# Altium footprint library PcbLib.PcbLib: 14 footprints
Each footprint in its own frame and in the unit in brackets; x right, y up, seen from the top. Pads: shape width x height; smd on the part's side, far side on the other; paste and mask are expansions set on the pad; w line width, h text height; cw(c..) or ccw(c..) is an arc to the next point about the centre after c.
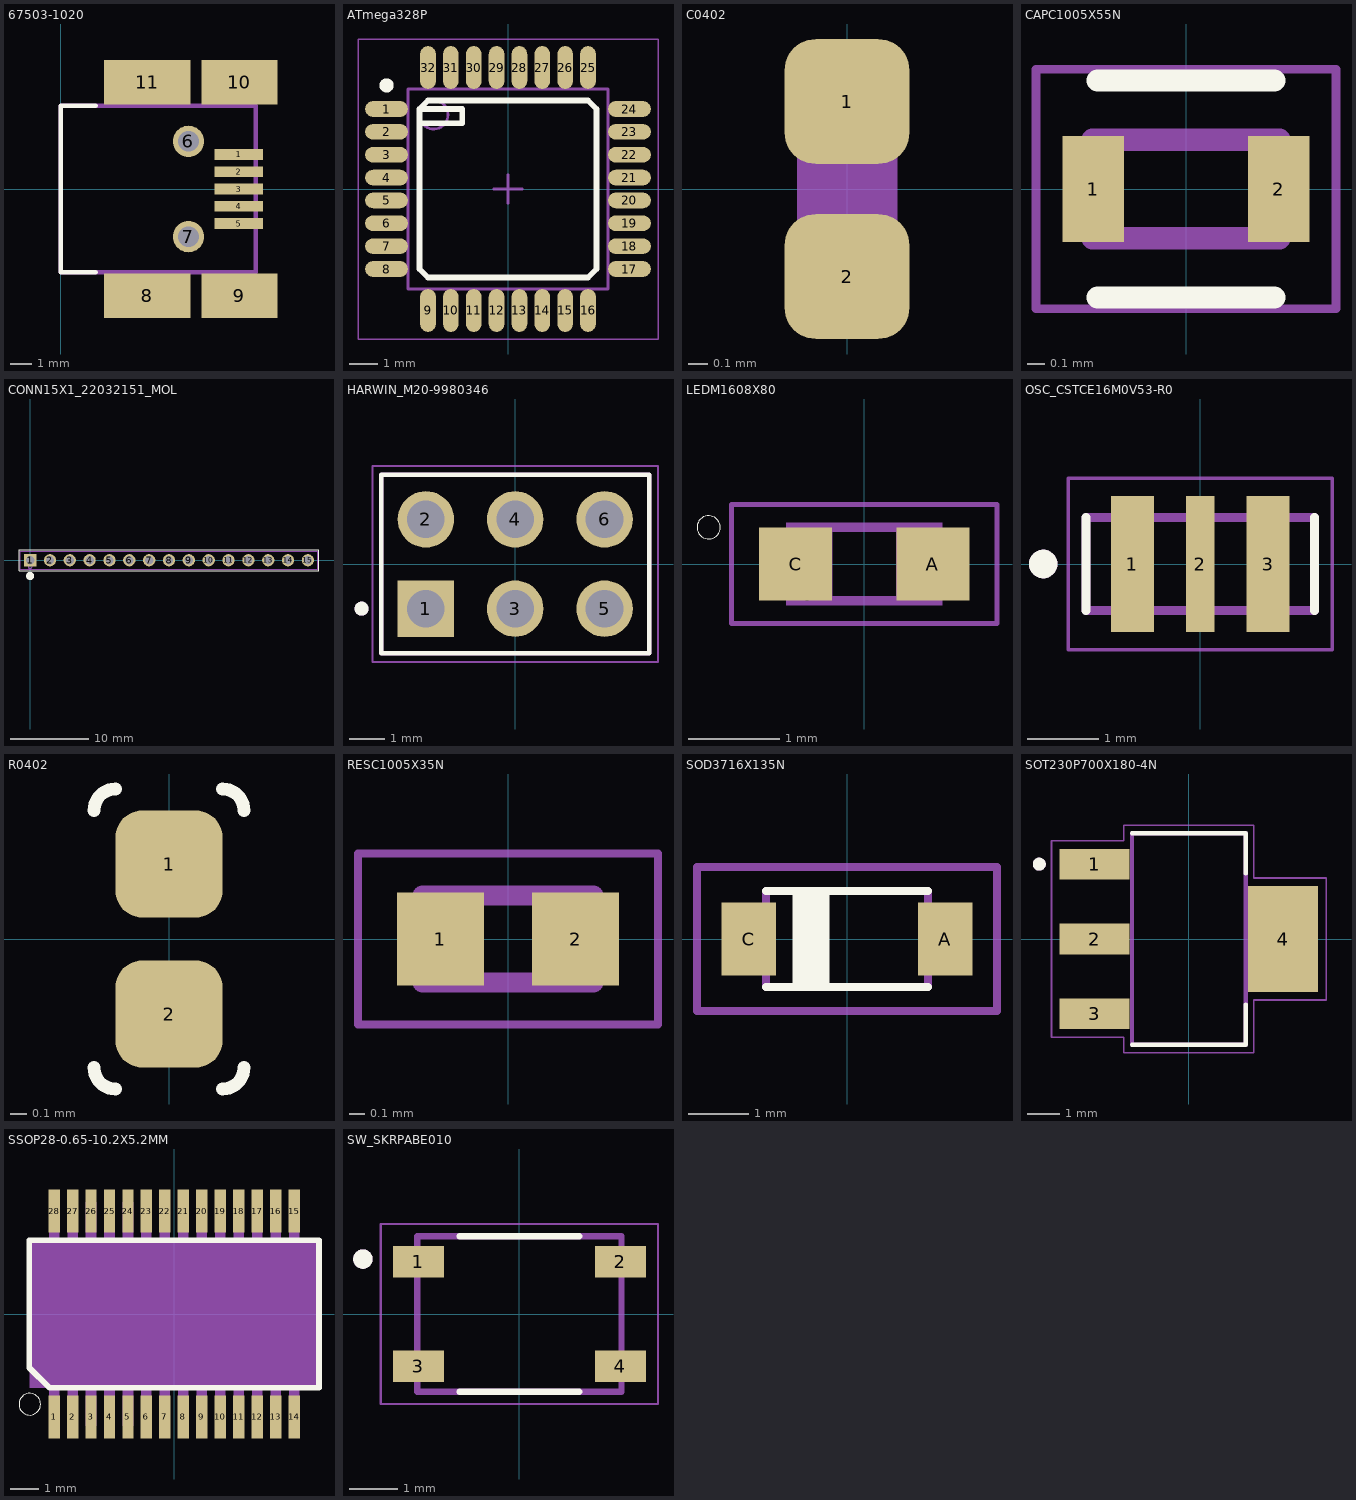
[diagram p0: the footprints below, top view; thin cyan lines are the x and y axes]

## 67503-1020 [mm]
pads (11):
  rect 2.25x0.5 smd: 1(8.225,1.6) 2(8.225,0.8) 3(8.225,0) 4(8.225,-0.8) 5(8.225,-1.6)
  round 1.45 hole 0.95: 6(5.9,2.2) 7(5.9,-2.2)
  rect 4x2.05 smd: 8(4,-4.925) 11(4,4.925)
  rect 3.5x2.05 smd: 9(8.25,-4.925) 10(8.25,4.925)
Top Overlay:
  lines w0.2: 1.62,-3.85 0,-3.85 0,3.85 1.62,3.85
Mechanical 13:
  lines w0.2: 0,-3.85 9,-3.85 9,3.85 0,3.85 0,-3.85
3D body "0675031020.stp": height 3.96, standoff -0.99, extent 0.072,-4.947 9.072,4.953

## ATmega328P [mm] "CQFP, 32-Leads, Body 9,00x9,00mm, Pitch 0,80mm, IPC Medium Density"
height 1.2
pads (32):
  oval 1.5x0.55 smd: 1(-4.25,2.8) 2(-4.25,2) 3(-4.25,1.2) 4(-4.25,0.4) 5(-4.25,-0.4) 6(-4.25,-1.2) 7(-4.25,-2) 8(-4.25,-2.8) 17(4.25,-2.8) 18(4.25,-2) 19(4.25,-1.2) 20(4.25,-0.4) 21(4.25,0.4) 22(4.25,1.2) 23(4.25,2) 24(4.25,2.8)
  oval 0.55x1.5 smd: 9(-2.8,-4.25) 10(-2,-4.25) 11(-1.2,-4.25) 12(-0.4,-4.25) 13(0.4,-4.25) 14(1.2,-4.25) 15(2,-4.25) 16(2.8,-4.25) 25(2.8,4.25) 26(2,4.25) 27(1.2,4.25) 28(0.4,4.25) 29(-0.4,4.25) 30(-1.2,4.25) 31(-2,4.25) 32(-2.8,4.25)
Top Overlay:
  circle w0.25: c-4.25,3.625 r0.125
  lines w0.2: -3.1,2.3 -1.6,2.3 -1.6,2.8 -3.1,2.8 ; -3.1,2.8 -3.1,-2.8 -2.8,-3.1 2.8,-3.1 3.1,-2.8 3.1,2.8 2.8,3.1 -2.8,3.1 -3.1,2.8
Mechanical 13:
  circle w0.1: c-2.6,2.6 r0.5
  lines w0.1: -3.5,-3.5 -3.5,3.5 3.5,3.5 3.5,-3.5 -3.5,-3.5
Mechanical 15:
  lines w0.05: -5.25,-5.25 -5.25,5.25 5.25,5.25 5.25,-5.25 -5.25,-5.25
  lines w0.1: -0.5,0 0.5,0 ; 0,-0.5 0,0.5
3D body: height 1.2, standoff 0.15, extent -3.5,-3.5 3.5,3.5

## C0402 [mil]
pads (2):
  rrect50% 25x25 smd: 1(0,17.5) 2(0,-17.5)
Mechanical 13:
  region: 10,-20 -10,-20 -10,20 10,20
3D body "step_temp.STEP": height 21.65, standoff 0, extent -9.84,-21.87 9.84,17.5

## CAPC1005X55N [mm]
pads (2):
  rect 0.35x0.6 smd: 1(-0.525,0) 2(0.525,0)
Top Overlay:
  lines w0.127: -0.5,-0.615 0.5,-0.615 ; -0.5,0.615 0.5,0.615
Mechanical 13:
  lines w0.127: -0.53,-0.28 0.53,-0.28 0.53,0.28 -0.53,0.28 -0.53,-0.28
Mechanical 15:
  lines w0.05: -0.85,-0.679 0.85,-0.679 0.85,0.679 -0.85,0.679 -0.85,-0.679
3D body "step_temp.STEP": height 0.55, standoff 0, extent -0.5,-0.25 0.5,0.25

## CONN15X1_22032151_MOL [mil]
pads (15):
  rect 62x62 / inner round 62 / far side rect 62x62 hole 42: 1(0,0)
  round 62 hole 42: 2(100,0) 3(200,0) 4(300,0) 5(400,0) 6(500,0) 7(600,0) 8(700,0) 9(800,0) 10(900,0) 11(1000,0) 12(1100,0) 13(1200,0) 14(1300,0) 15(1400,0)
Top Overlay:
  lines w6: -56,-52 1456,-52 1456,52 -56,52 -56,-52
  lines w20: 10,-80 cw(c0,-80) -10,-80 cw(c0,-79.5) 10,-78.98
Mechanical 13:
  lines w0: 10,-32 cw(c0,-32) -10,-32 cw(c0,-31.5) 10,-30.98
  lines w6: -50,-46 1450,-46 1450,46 -50,46 -50,-46
3D body "0022032151.stp": height 425.5, standoff -134.5, extent -45,-46.5 1445,46.5

## HARWIN_M20-9980346 [mm]
pads (6):
  rect 1.605x1.605 / inner round 1.605 / far side rect 1.605x1.605 hole 1.07: 1(-2.54,-1.27)
  round 1.605 hole 1.07: 2(-2.54,1.27) 3(0,-1.27) 4(0,1.27) 5(2.54,-1.27) 6(2.54,1.27)
Top Overlay:
  circle w0.2: c-4.37,-1.27 r0.1
  lines w0.127: -3.81,-2.54 -3.81,2.54 3.81,2.54 3.81,-2.54 -3.81,-2.54
Mechanical 13:
  circle w0.2: c-4.37,-1.27 r0.1
  lines w0.127: -3.81,-2.54 -3.81,2.54 3.81,2.54 3.81,-2.54 -3.81,-2.54
Mechanical 15:
  lines w0.05: -4.06,-2.79 4.06,-2.79 4.06,2.79 -4.06,2.79 -4.06,-2.79
3D body "m20-9980346.stp": height 8.05, standoff -3.63, extent -3.81,-2.54 3.81,2.54

## LEDM1608X80 [mm]
pads (2):
  rect 0.8x0.8 smd: A(0.75,0) C(-0.75,0)
Top Overlay:
  circle w0: c-1.7,0.4 r0.127
Mechanical 13:
  circle w0.051: c-0.625,-0.35 r0.075
  region: -0.7,-0.451 -0.851,-0.451 -0.851,-0.25 -0.7,-0.25
  region: -0.55,-0.276 -0.601,-0.276 -0.601,-0.225 -0.55,-0.225
  region: -0.35,-0.45 -0.725,-0.45 -0.725,-0.4 -0.35,-0.4
  region: -0.551,0.25 -0.85,0.25 -0.85,0.451 -0.551,0.451
  region: -0.351,-0.451 -0.576,-0.451 -0.576,0.451 -0.351,0.451
  region: 0.851,-0.45 0.35,-0.45 0.35,-0.251 0.851,-0.251
  region: 0.85,0.25 0.35,0.25 0.35,0.45 0.85,0.45
  region: 0.575,-0.275 0.35,-0.275 0.35,0.275 0.575,0.275
  region: 0.65,-0.275 0.55,-0.275 0.55,-0.175 0.65,-0.175
  region: 0.65,0.175 0.55,0.175 0.55,0.275 0.65,0.275
  lines w0.051: 0.825,-0.275 cw(c0.825,0) 0.825,0.275
  lines w0.102: -0.8,-0.3 ccw(c-0.826,0) -0.8,0.3 ; -0.375,-0.4 0.35,-0.4 ; -0.35,0.4 0.35,0.4
Mechanical 15:
  lines w0.05: -1.45,-0.65 1.45,-0.65 1.45,0.65 -1.45,0.65 -1.45,-0.65
3D body "step_temp.STEP": height 0.8, standoff 0, extent -0.8,-0.4 0.8,0.4

## OSC_CSTCE16M0V53-R0 [mm]
pads (3):
  rect 0.6x1.9 smd: 1(-0.95,0) 3(0.95,0)
  rect 0.4x1.9 smd: 2(0,0)
Top Overlay:
  circle w0.2: c-2.2,0 r0.1
  lines w0.127: -1.6,-0.65 -1.6,0.65 ; 1.6,-0.65 1.6,0.65
Mechanical 13:
  circle w0.2: c-2.2,0 r0.1
  lines w0.127: -1.6,-0.65 -1.6,0.65 1.6,0.65 1.6,-0.65 -1.6,-0.65
Mechanical 15:
  lines w0.05: -1.85,-1.2 -1.85,1.2 1.85,1.2 1.85,-1.2 -1.85,-1.2
3D body "step_temp.STEP": height 1, standoff 0, extent -1.6,-0.65 1.6,0.65

## R0402 [mil]
pads (2):
  rrect50% 25x25 smd: 1(0,17.5) 2(0,-17.5)
Top Overlay:
  lines w3: -17.5,-30 ccw(c-12.5,-30) -12.5,-35 ; -17.5,30 cw(c-12.5,30) -12.5,35 ; 12.5,-35 ccw(c12.5,-30) 17.5,-30 ; 12.5,35 cw(c12.5,30) 17.5,30
3D body "RC0402JR-071KL.STEP": height 15.46, standoff -0.28, extent -9.84,-19.68 9.84,19.68

## RESC1005X35N [mm]
pads (2):
  rect 0.56x0.6 smd: 1(-0.435,0) 2(0.435,0)
Mechanical 13:
  lines w0.127: -0.55,-0.28 -0.55,0.28 0.55,0.28 0.55,-0.28 -0.55,-0.28
Mechanical 15:
  lines w0.05: -0.965,-0.55 -0.965,0.55 0.965,0.55 0.965,-0.55 -0.965,-0.55
3D body "step_temp.STEP": height 0.35, standoff 0, extent -0.5,-0.25 0.5,0.25

## SOD3716X135N [mm]
pads (2):
  rect 0.91x1.22 smd: A(1.635,0) C(-1.635,0)
Top Overlay:
  region: -0.3,-0.801 -0.901,-0.801 -0.901,0.8 -0.3,0.8
  lines w0.127: -1.35,-0.8 1.35,-0.8 ; -1.35,0.8 1.35,0.8
Mechanical 13:
  lines w0.127: -1.35,-0.8 -1.35,0.8 ; 1.35,-0.8 1.35,0.8
Mechanical 15:
  lines w0.127: -2.5,-1.2 -2.5,1.2 2.5,1.2 2.5,-1.2 -2.5,-1.2
3D body "step_temp.STEP": height 1.35, standoff 0, extent -1.84,-0.8 1.84,0.8

## SOT230P700X180-4N [mm]
pads (4):
  rect 2.15x0.95 smd: 1(-2.9,2.3) 2(-2.9,0) 3(-2.9,-2.3)
  rect 2.15x3.25 smd: 4(2.9,0)
Top Overlay:
  circle w0.2: c-4.6,2.3 r0.1
  lines w0.127: -1.75,-3.25 1.75,-3.25 1.75,-2.01 ; -1.75,3.25 1.75,3.25 1.75,2.01
Mechanical 13:
  circle w0.2: c-4.6,2.3 r0.1
  lines w0.127: -1.75,-3.25 1.75,-3.25 1.75,3.25 -1.75,3.25 -1.75,-3.25
Mechanical 15:
  lines w0.05: -4.225,-3.025 -2,-3.025 -2,-3.5 2,-3.5 2,-1.875 4.225,-1.875 4.225,1.875 2,1.875 2,3.5 -2,3.5 -2,3.025 -4.225,3.025 -4.225,-3.025
3D body "step_temp.STEP": height 1.8, standoff 0, extent -3.499,-3.25 3.499,3.25

## SSOP28-0.65-10.2X5.2MM [mm]
pads (28):
  rect 0.4x1.5 smd: 1(-4.225,-3.625) 2(-3.575,-3.625) 3(-2.925,-3.625) 4(-2.275,-3.625) 5(-1.625,-3.625) 6(-0.975,-3.625) 7(-0.325,-3.625) 8(0.325,-3.625) 9(0.975,-3.625) 10(1.625,-3.625) 11(2.275,-3.625) 12(2.925,-3.625) 13(3.575,-3.625) 14(4.225,-3.625) 15(4.225,3.625) 16(3.575,3.625) 17(2.925,3.625) 18(2.275,3.625) 19(1.625,3.625) 20(0.975,3.625) 21(0.325,3.625) 22(-0.325,3.625) 23(-0.975,3.625) 24(-1.625,3.625) 25(-2.275,3.625) 26(-2.925,3.625) 27(-3.575,3.625) 28(-4.225,3.625)
Top Overlay:
  circle w0: c-5.08,-3.175 r0.381
  lines w0.203: -5.1,-1.89 -4.39,-2.6 5.1,-2.6 5.1,2.6 -5.1,2.6 -5.1,-1.89
Mechanical 13:
  region: -4.047,2.642 -4.403,2.642 -4.403,3.937 -4.047,3.937
  region: -3.397,2.642 -3.753,2.642 -3.753,3.937 -3.397,3.937
  region: -2.747,2.642 -3.103,2.642 -3.103,3.937 -2.747,3.937
  region: -2.097,2.642 -2.453,2.642 -2.453,3.937 -2.097,3.937
  region: -1.447,2.642 -1.803,2.642 -1.803,3.937 -1.447,3.937
  region: -0.797,2.642 -1.153,2.642 -1.153,3.937 -0.797,3.937
  region: -0.147,2.642 -0.503,2.642 -0.503,3.937 -0.147,3.937
  region: 0.503,2.642 0.147,2.642 0.147,3.937 0.503,3.937
  region: 1.153,2.642 0.797,2.642 0.797,3.937 1.153,3.937
  region: 1.803,2.642 1.447,2.642 1.447,3.937 1.803,3.937
  region: 2.453,2.642 2.097,2.642 2.097,3.937 2.453,3.937
  region: 3.103,2.642 2.747,2.642 2.747,3.937 3.103,3.937
  region: 3.753,2.642 3.397,2.642 3.397,3.937 3.753,3.937
  region: 4.403,2.642 4.047,2.642 4.047,3.937 4.403,3.937
  region: 4.403,-3.937 4.047,-3.937 4.047,-2.642 4.403,-2.642
  region: 3.753,-3.937 3.397,-3.937 3.397,-2.642 3.753,-2.642
  region: 3.103,-3.937 2.747,-3.937 2.747,-2.642 3.103,-2.642
  region: 2.453,-3.937 2.097,-3.937 2.097,-2.642 2.453,-2.642
  region: 1.803,-3.937 1.447,-3.937 1.447,-2.642 1.803,-2.642
  region: 1.153,-3.937 0.797,-3.937 0.797,-2.642 1.153,-2.642
  region: 0.503,-3.937 0.147,-3.937 0.147,-2.642 0.503,-2.642
  region: -0.147,-3.937 -0.503,-3.937 -0.503,-2.642 -0.147,-2.642
  region: -0.797,-3.937 -1.153,-3.937 -1.153,-2.642 -0.797,-2.642
  region: -1.447,-3.937 -1.803,-3.937 -1.803,-2.642 -1.447,-2.642
  region: -2.097,-3.937 -2.453,-3.937 -2.453,-2.642 -2.097,-2.642
  region: -2.747,-3.937 -3.103,-3.937 -3.103,-2.642 -2.747,-2.642
  region: -3.397,-3.937 -3.753,-3.937 -3.753,-2.642 -3.397,-2.642
  region: -4.047,-3.937 -4.403,-3.937 -4.403,-2.642 -4.047,-2.642
Mechanical 15:
  region: 5.08,-2.6 -5.08,-2.6 -5.08,2.6 5.08,2.6
3D body "step_temp.STEP": height 2, standoff 0, extent -5.1,-3.9 5.1,3.9

## SW_SKRPABE010 [mm]
height 2.5
pads (4):
  rect 1.05x0.65 smd: 1(-2.075,1.075) 2(2.075,1.075) 3(-2.075,-1.075) 4(2.075,-1.075)
Top Overlay:
  circle w0.2: c-3.218,1.13 r0.1
  lines w0.127: -1.23,-1.6 1.23,-1.6 ; -1.23,1.6 1.23,1.6
Mechanical 13:
  circle w0.2: c-3.218,1.13 r0.1
  lines w0.127: -2.1,-1.6 -2.1,1.6 2.1,1.6 2.1,-1.6 -2.1,-1.6
Mechanical 15:
  lines w0.05: -2.85,-1.85 2.85,-1.85 2.85,1.85 -2.85,1.85 -2.85,-1.85
3D body "step_temp.STEP": height 2.5, standoff 0, extent -2.3,-1.6 2.3,1.6